# EAGLE library part TLC59281DBQ (library SamacSys_Parts)
16-Channel, Constant-Current LED Driver without LED Open Detection Source: Datasheet <http://www.ti.com/lit/gpn/TLC59281>
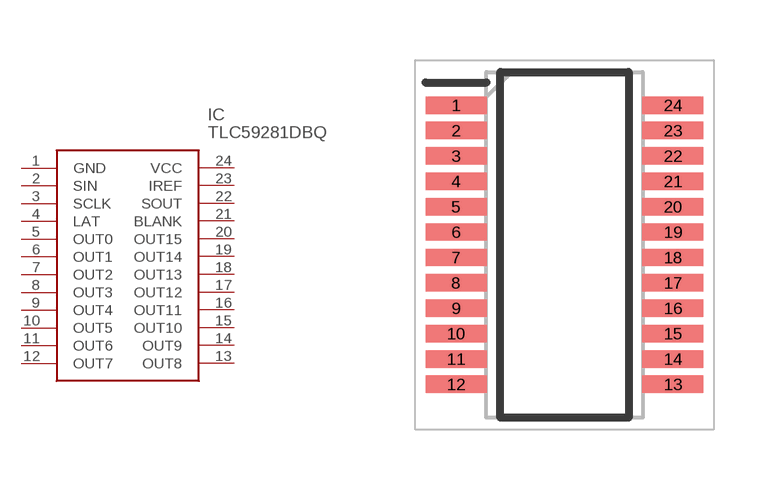
[diagram p1: symbol with the pads of SOP64P600X175-24N; footprint SOP64P600X175-24N]

Designator prefix IC

## TLC59281DBQ (DESCRIPTION: 16-Channel, Constant-Current LED Driver without LED Open Detection; HEIGHT: 1.75mm; MANUFACTURER_NAME: Texas Instruments; MANUFACTURER_PART_NUMBER: TLC59281DBQ; MOUSER_PART_NUMBER: 595-TLC59281DBQ; MOUSER_PRICE-STOCK: https://www.mouser.co.uk/ProductDetail/Texas-Instruments/TLC59281DBQ?qs=yoyprvkDL1kkJf0rCz1krw%3D%3D)  [SOP64P600X175-24N]
1  GND
2  SIN
3  SCLK
4  LAT
5  OUT0
6  OUT1
7  OUT2
8  OUT3
9  OUT4
10  OUT5
11  OUT6
12  OUT7
13  OUT8
14  OUT9
15  OUT10
16  OUT11
17  OUT12
18  OUT13
19  OUT14
20  OUT15
21  BLANK
22  SOUT
23  IREF
24  VCC

## Footprint SOP64P600X175-24N (pad centres in mm)
DBQ (R-PDSO-G24)
smd 1.525 x 0.435: 1 -2.712,3.492; 2 -2.712,2.858; 3 -2.712,2.222; 4 -2.712,1.588; 5 -2.712,0.952; 6 -2.712,0.318; 7 -2.712,-0.318; 8 -2.712,-0.952; 9 -2.712,-1.588; 10 -2.712,-2.222; 11 -2.712,-2.858; 12 -2.712,-3.492; 13 2.712,-3.492; 14 2.712,-2.858; 15 2.712,-2.222; 16 2.712,-1.588; 17 2.712,-0.952; 18 2.712,-0.318; 19 2.712,0.318; 20 2.712,0.952; 21 2.712,1.588; 22 2.712,2.222; 23 2.712,2.858; 24 2.712,3.492